# Altium footprint library MD0100N8-G.PcbLib: 1 footprints
Each footprint in its own frame and in the unit in brackets; x right, y up, seen from the top. Pads: shape width x height; smd on the part's side, far side on the other; paste and mask are expansions set on the pad; w line width, h text height; cw(c..) or ccw(c..) is an arc to the next point about the centre after c.
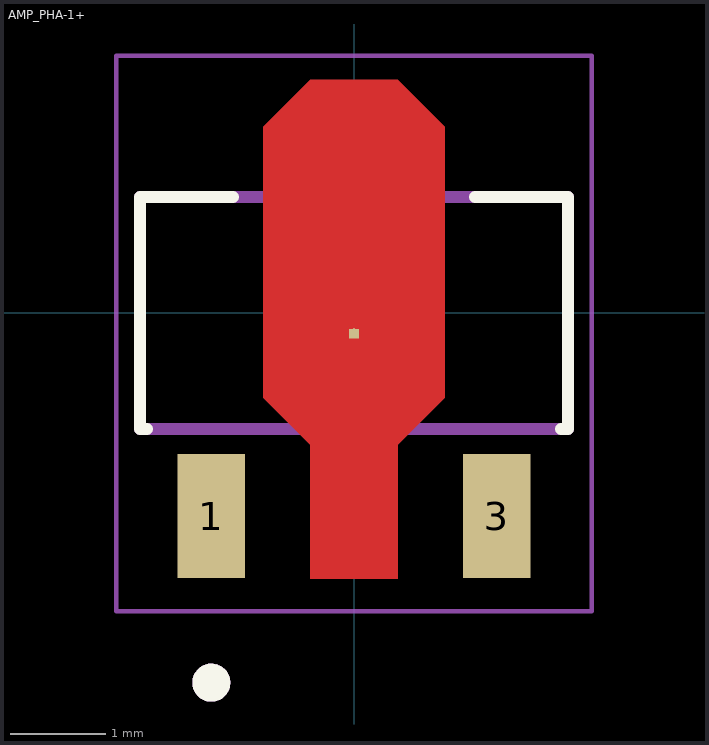
[diagram p0: the footprint, top view; thin cyan lines are the x and y axes]

## AMP_PHA-1+ [mil]
pads (4):
  rect 28x51.18 smd: 1(-59,-84) 3(59,-84)
  round 1 smd: 2(0,-6.75)
  rect 3.94x3.94 smd paste-39.37 mask+0: 2_4(0,-8.5)
Top Layer:
  region: 37.5,77 37.5,-35 18,-54.5 18,-110 -18,-110 -18,-54.5 -37.5,-35 -37.5,77 -18,96.5 18,96.5
Top Overlay:
  circle w7.87: c-59,-152.87 r3.94
  lines w5: -85.6,-48 -88.5,-48 -88.5,48 -50.12,48 ; 50.12,48 88.5,48 88.5,-48 85.6,-48
Top Paste:
  region: 37.5,77 37.5,-35 18,-54.5 18,-110 -18,-110 -18,-54.5 -37.5,-35 -37.5,77 -18,96.5 18,96.5
Mechanical 13:
  circle w7.87: c-59,-152.87 r3.94
  lines w5: -88.5,-48 -88.5,48 88.5,48 88.5,-48 -88.5,-48
Mechanical 15:
  lines w1.97: -98.34,-123.35 98.34,-123.35 98.34,106.34 -98.34,106.34 -98.34,-123.35
3D body "step_temp.STEP": height 62.99, standoff 0, extent -88.58,-80.61 88.58,80.61